# Altium schematic symbol library SparkFun-IC-Amplifiers.SCHLIB: 22 symbols
Pins are listed as number, name and electrical type; pins without a type are passive.

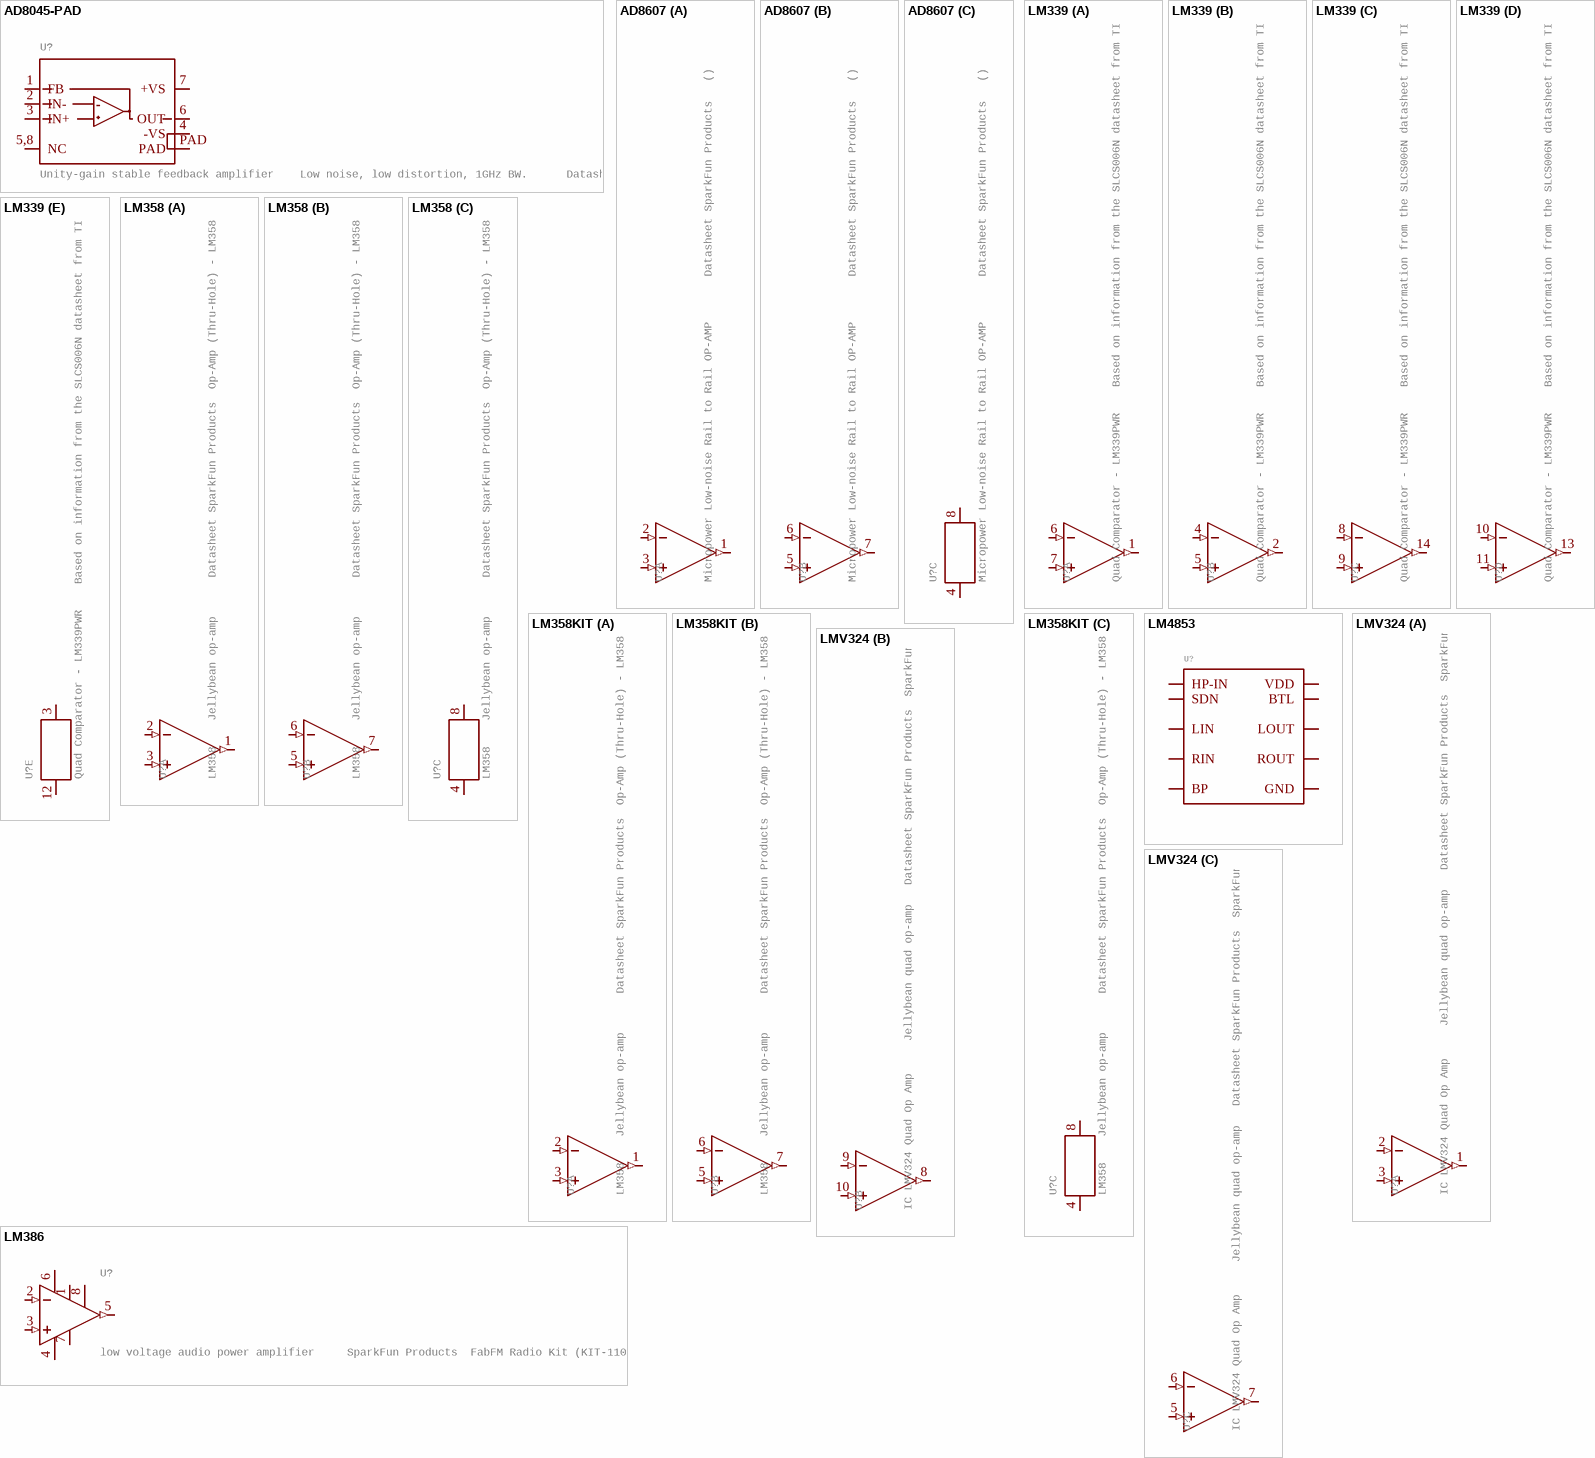
[diagram p0: symbols AD8045-PAD to LMV324]

## AD8045-PAD
designator U?, comment Unity-gain stable feedback amplifier    Low noise, low distortion, 1GHz BW.      Datasheet SparkFun Products  SparkFun MiniGen - Pro Mini Signal Generator Shield (BOB-11420)
GateName_1: G$1; SymbolName_1: AD8045; DeviceName: -PAD; PROD_ID: IC-11224; LibraryName: SparkFun-IC-Amplifiers; DeviceSetName: AD8045; Package: SO08_PAD
footprint SO08_PAD
pins: 1 FB (io), 2 IN- (io), 3 IN+ (io), 4 -VS (power), 5,8 NC, 6 OUT (io), 7 +VS (power), PAD (power)

## AD8607
designator U?, comment Micropower Low-noise Rail to Rail OP-AMP       Datasheet SparkFun Products   ()        Currently in prototype (unknown project)
GateName_1: G1; GateName_2: G2; GateName_3: G3; SymbolName_3: POWER_CONSORT; DeviceSetName: AD8607; PROD_ID: IC-13133; SymbolName_1: OP-AMP; SymbolName_2: OP-AMP; LibraryName: SparkFun-IC-Amplifiers; Package: SO08
footprint SO08
part A pins: 1 OUT (out), 2 -IN (in), 3 +IN (in)
part B pins: 5 +IN (in), 6 -IN (in), 7 OUT (out)
part C pins: 4 P$V- (io), 8 P$V+ (io)

## LM339
designator U?, comment Quad Comparator - LM339PWR    Based on information from the SLCS006N datasheet from TI (www.ti.com).   Created by nick@scantool.net, 2008.  Updated 2016. SparkFun Products  SparkFun OBD-II UART (WIG-09555)  SparkFun Car Diagnostics Kit (RTL-10769)
GateName_1: G1; SymbolName_1: OP-AMP; GateName_2: G2; GateName_3: G3; GateName_4: G4; GateName_5: G5; SymbolName_5: POWER_CONSORT; DeviceSetName: LM339; PROD_ID: IC-09990; SymbolName_2: OP-AMP; SymbolName_3: OP-AMP; SymbolName_4: OP-AMP; LibraryName: SparkFun-IC-Amplifiers; Package: TSSOP-14
footprint TSSOP-14
part A pins: 1 OUT (out), 6 -IN (in), 7 +IN (in)
part B pins: 2 OUT (out), 4 -IN (in), 5 +IN (in)
part C pins: 8 -IN (in), 9 +IN (in), 14 OUT (out)
part D pins: 10 -IN (in), 11 +IN (in), 13 OUT (out)
part E pins: 3 P$V+ (io), 12 P$V- (io)

## LM358
designator U?, comment LM358    Jellybean op-amp      Datasheet SparkFun Products  Op-Amp (Thru-Hole) - LM358 (COM-09456)
GateName_1: G1; GateName_2: G2; GateName_3: G3; SymbolName_3: POWER_CONSORT; PROD_ID: IC-09172; SymbolName_1: OP-AMP; SymbolName_2: OP-AMP; LibraryName: SparkFun-IC-Amplifiers; DeviceSetName: LM358; Package: DIP08
footprint DIP08
part A pins: 1 OUT (out), 2 -IN (in), 3 +IN (in)
part B pins: 5 +IN (in), 6 -IN (in), 7 OUT (out)
part C pins: 4 P$V- (io), 8 P$V+ (io)

## LM358KIT
designator U?, comment LM358    Jellybean op-amp      Datasheet SparkFun Products  Op-Amp (Thru-Hole) - LM358 (COM-09456)
GateName_1: G1; GateName_2: G2; GateName_3: G3; SymbolName_3: POWER_CONSORT; DeviceName: KIT; PROD_ID: IC-09172; SymbolName_1: OP-AMP; SymbolName_2: OP-AMP; LibraryName: SparkFun-IC-Amplifiers; DeviceSetName: LM358; Package: DIP08-KIT
footprint DIP08-KIT
part A pins: 1 OUT (out), 2 -IN (in), 3 +IN (in)
part B pins: 5 +IN (in), 6 -IN (in), 7 OUT (out)
part C pins: 4 P$V- (io), 8 P$V+ (io)

## LM386
designator U?, comment low voltage audio power amplifier     SparkFun Products  FabFM Radio Kit (KIT-11043)
GateName_1: G1; SymbolName_1: OP-AMP+-FULL; DeviceSetName: LM386; PROD_ID: IC-10899; LibraryName: SparkFun-IC-Amplifiers; Package: DIP08
footprint DIP08
pins: 1 GAIN@1 (io), 2 -IN (in), 3 +IN (in), 4 V- (power), 5 OUT (out), 6 V+ (power), 7 BP (io), 8 GAIN@8 (io)

## LM4853
designator U?
GateName_1: G$1; SymbolName_1: LM4853; PROD_ID: IC-13812; LibraryName: SparkFun-IC-Amplifiers; DeviceSetName: LM4853; Package: TFSOP-10
footprint TFSOP-10
pins: BP (io), BTL (io), GND (io), HP-IN (io), LIN (io), LOUT (io), RIN (io), ROUT (io), SDN (io), VDD (io)

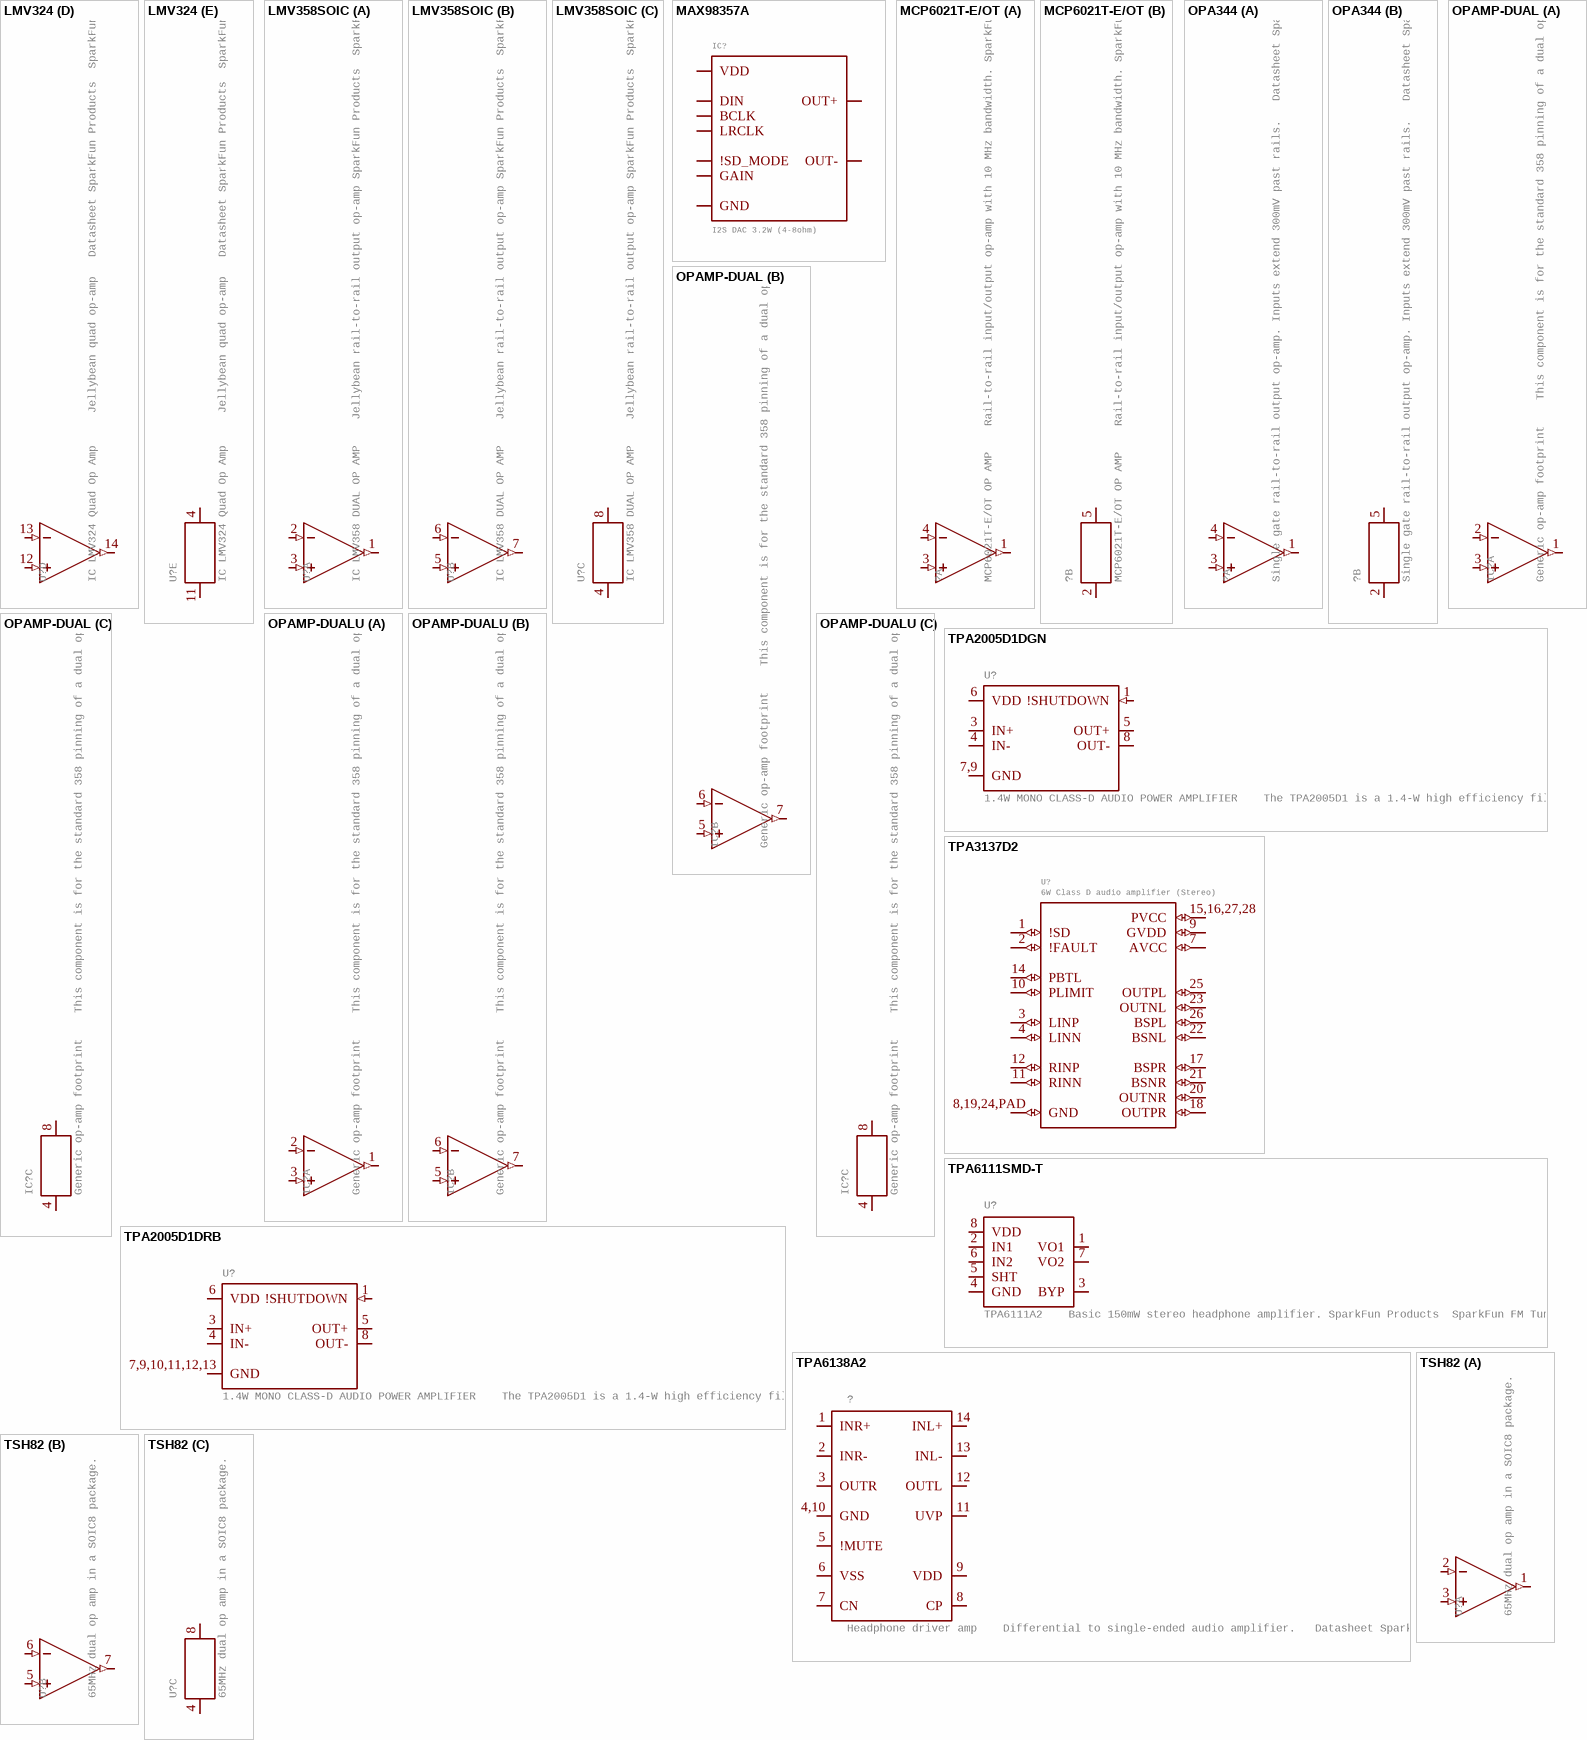
[diagram p1: symbols LMV324 to TSH82]

## LMV324
designator U?, comment IC LMV324 Quad Op Amp     Jellybean quad op-amp   Datasheet SparkFun Products  SparkFun Sensor Kit (DEV-13754)  SparkFun Inventor's Kit for Arduino 101 (KIT-13844)  SparkFun Sound Detector (SEN-12642)
GateName_1: G1; GateName_2: G2; GateName_3: G3; GateName_4: G4; GateName_5: G5; SymbolName_5: POWER_CONSORT; PROD_ID: IC-08227; SymbolName_1: OP-AMP; SymbolName_2: OP-AMP; SymbolName_3: OP-AMP; SymbolName_4: OP-AMP; LibraryName: SparkFun-IC-Amplifiers; DeviceSetName: LMV324; Package: SO14
footprint SO14
part A pins: 1 OUT (out), 2 -IN (in), 3 +IN (in)
part B pins: 8 OUT (out), 9 -IN (in), 10 +IN (in)
part C pins: 5 +IN (in), 6 -IN (in), 7 OUT (out)
part D pins: 12 +IN (in), 13 -IN (in), 14 OUT (out)
part E pins: 4 P$V+ (io), 11 P$V- (io)

## LMV358SOIC
designator U?, comment IC LMV358 DUAL OP AMP    Jellybean rail-to-rail output op-amp SparkFun Products  SparkFun PicoBoard (WIG-11888)  SparkFun Vernier Interface Shield (DEV-12858)  SparkFun Blynk Board - ESP8266 (WRL-13794)  SparkFun Digital Sandbox (DEV-12651 RoHS)
GateName_1: G1; GateName_2: G2; GateName_3: G3; SymbolName_3: POWER_CONSORT; DeviceName: SOIC; PROD_ID: IC-09657; SymbolName_1: OP-AMP; SymbolName_2: OP-AMP; LibraryName: SparkFun-IC-Amplifiers; DeviceSetName: LMV358; Package: SO08
footprint SO08
part A pins: 1 OUT (out), 2 -IN (in), 3 +IN (in)
part B pins: 5 +IN (in), 6 -IN (in), 7 OUT (out)
part C pins: 4 P$V- (io), 8 P$V+ (io)

## MAX98357A
designator IC?, comment I2S DAC 3.2W (4-8ohm)
GateName_1: G$1; SymbolName_1: MAX98357A; PROD_ID: IC-14032; LibraryName: SparkFun-IC-Amplifiers; DeviceSetName: MAX98357A; Package: TQFN-16
footprint TQFN-16
pins: P$1 DIN (io), P$2 GAIN (io), P$3,P$11,P$15,P$EP GND (io), P$4 !SD_MODE (io), P$7,8 VDD (io), P$9 OUT+ (io), P$10 OUT- (io), P$14 LRCLK (io), P$16 BCLK (io)

## MCP6021T-E/OT
designator ?, comment MCP6021T-E/OT OP AMP    Rail-to-rail input/output op-amp with 10 MHz bandwidth. SparkFun Products  ZX Distance and Gesture Sensor (SEN-12780)
GateName_1: G1; GateName_2: G2; SymbolName_2: POWER_CONSORT; DeviceName: T-E/OT; PROD_ID: IC-12504; SymbolName_1: OP-AMP; LibraryName: SparkFun-IC-Amplifiers; DeviceSetName: MCP6021; Package: SOT23-5
footprint SOT23-5
part A pins: 1 OUT (out), 3 +IN (in), 4 -IN (in)
part B pins: 2 P$V- (io), 5 P$V+ (io)

## OPA344
designator ?, comment Single gate rail-to-rail output op-amp. Inputs extend 300mV past rails.   Datasheet SparkFun Products  SparkFun Low Current Sensor (SEN-08883)  SparkFun Electret Microphone Breakout (BOB-12758)
GateName_1: G1; SymbolName_1: OP-AMP; GateName_2: G2; SymbolName_2: POWER_CONSORT; DeviceSetName: OPA344; PROD_ID: IC-08251; LibraryName: SparkFun-IC-Amplifiers; Package: SOT23-5
footprint SOT23-5
part A pins: 1 OUT (out), 3 +IN (in), 4 -IN (in)
part B pins: 2 P$V- (io), 5 P$V+ (io)

## OPAMP-DUAL
designator IC?, comment Generic op-amp footprint    This component is for the standard 358 pinning of a dual op-amp   From the LM358 datasheet:    Pin 1: Output A  Pin 2: Inverting Input A  Pin 3: Non-Inverting Input A  Pin 4: Gnd  Pin 5: Non-Inverting Input B  Pin 6: Inverting Input B  Pin 7: Output B  Pin 8: V+
GateName_1: G1; GateName_2: G2; GateName_3: G3; SymbolName_3: POWER_CONSORT; DeviceSetName: OPAMP-DUAL; PROD_ID: NA-XXXXX; SymbolName_1: OP-AMP; SymbolName_2: OP-AMP; LibraryName: SparkFun-IC-Amplifiers; Package: DIP08
footprint DIP08
part A pins: 1 OUT (out), 2 -IN (in), 3 +IN (in)
part B pins: 5 +IN (in), 6 -IN (in), 7 OUT (out)
part C pins: 4 P$V- (io), 8 P$V+ (io)

## OPAMP-DUALU
designator IC?, comment Generic op-amp footprint    This component is for the standard 358 pinning of a dual op-amp   From the LM358 datasheet:    Pin 1: Output A  Pin 2: Inverting Input A  Pin 3: Non-Inverting Input A  Pin 4: Gnd  Pin 5: Non-Inverting Input B  Pin 6: Inverting Input B  Pin 7: Output B  Pin 8: V+
GateName_1: G1; GateName_2: G2; GateName_3: G3; SymbolName_3: POWER_CONSORT; DeviceName: U; DeviceSetName: OPAMP-DUAL; PROD_ID: NA-XXXXX; SymbolName_1: OP-AMP; SymbolName_2: OP-AMP; LibraryName: SparkFun-IC-Amplifiers; Package: SO08
footprint SO08
part A pins: 1 OUT (out), 2 -IN (in), 3 +IN (in)
part B pins: 5 +IN (in), 6 -IN (in), 7 OUT (out)
part C pins: 4 P$V- (io), 8 P$V+ (io)

## TPA2005D1DGN
designator U?, comment 1.4W MONO CLASS-D AUDIO POWER AMPLIFIER    The TPA2005D1 is a 1.4-W high efficiency filter-free class-D audio power amplifier in a BGA, QFN, or MSOP package that requires only three external components.   Datasheet: http://focus.ti.com/lit/ds/symlink/tpa2005d1.pdf 1.4 W Into 8 ? From a 5V Supply at THD = 10% (Typ)  Maximum Battery Life and Minimum Heat  Efficiency With an 8-? Speaker: 84% at 400 mW, 79% at 100 mW  2.8-mA Quiescent Current  0.5-mA Shutdown Current  Ideal for Wireless or Cellular Handsets and PDAs  Capable of Driving an 8-? Speaker (2.5 V ? VDD ? 5.5 V) and a 4-? Speaker (2.5 V ? VDD ? 4.2 V)  Only Three External Components  Optimized PWM Output Stage Eliminates LC Output Filter  Internally Generated 250-kHz Switching Frequency Eliminates Capacitor and Resistor  Improved PSRR (-71 dB at 217 Hz) and Wide Supply Voltage (2.5 V to 5.5 V) Eliminates Need for a Voltage Regulator  Fully Differential Design Reduces RF Rectification and Eliminates Bypass Capacitor  Improved CMRR Eliminates Two Input Coupling Capacitors     SparkFun Products  SparkFun Mono Audio Amp Breakout - TPA2005D1 (BOB-11044)    Note:  SparkFun currenly only uses the QFN style part
GateName_1: U1; DeviceName: DGN; PROD_ID: NA-XXXXX; SymbolName_1: TPA2005D1; LibraryName: SparkFun-IC-Amplifiers; DeviceSetName: TPA2005D1; Package: POWER-SOP8
footprint POWER-SOP8
pins: 1 !SHUTDOWN (in), 3 IN+ (io), 4 IN- (io), 5 OUT+ (io), 6 VDD (power), 7,9 GND (power), 8 OUT- (io)

## TPA2005D1DRB
designator U?, comment 1.4W MONO CLASS-D AUDIO POWER AMPLIFIER    The TPA2005D1 is a 1.4-W high efficiency filter-free class-D audio power amplifier in a BGA, QFN, or MSOP package that requires only three external components.   Datasheet: http://focus.ti.com/lit/ds/symlink/tpa2005d1.pdf 1.4 W Into 8 ? From a 5V Supply at THD = 10% (Typ)  Maximum Battery Life and Minimum Heat  Efficiency With an 8-? Speaker: 84% at 400 mW, 79% at 100 mW  2.8-mA Quiescent Current  0.5-mA Shutdown Current  Ideal for Wireless or Cellular Handsets and PDAs  Capable of Driving an 8-? Speaker (2.5 V ? VDD ? 5.5 V) and a 4-? Speaker (2.5 V ? VDD ? 4.2 V)  Only Three External Components  Optimized PWM Output Stage Eliminates LC Output Filter  Internally Generated 250-kHz Switching Frequency Eliminates Capacitor and Resistor  Improved PSRR (-71 dB at 217 Hz) and Wide Supply Voltage (2.5 V to 5.5 V) Eliminates Need for a Voltage Regulator  Fully Differential Design Reduces RF Rectification and Eliminates Bypass Capacitor  Improved CMRR Eliminates Two Input Coupling Capacitors     SparkFun Products  SparkFun Mono Audio Amp Breakout - TPA2005D1 (BOB-11044)    Note:  SparkFun currenly only uses the QFN style part
GateName_1: U1; DeviceName: DRB; PROD_ID: IC-10975; SymbolName_1: TPA2005D1; LibraryName: SparkFun-IC-Amplifiers; DeviceSetName: TPA2005D1; Package: QFN-8_PAD
footprint QFN-8_PAD
pins: 1 !SHUTDOWN (in), 3 IN+ (io), 4 IN- (io), 5 OUT+ (io), 6 VDD (power), 7,9,10,11,12,13 GND (power), 8 OUT- (io)

## TPA3137D2
designator U?, comment 6W Class D audio amplifier (Stereo)
GateName_1: G$1; SymbolName_1: TPA3137D2; LibraryName: SparkFun-IC-Amplifiers; DeviceSetName: TPA3137D2; Package: SSOP28_PAD
footprint SSOP28_PAD
pins: 1 !SD (io), 2 !FAULT (io), 3 LINP (io), 4 LINN (io), 7 AVCC (io), 8,19,24,PAD GND (io), 9 GVDD (io), 10 PLIMIT (io), 11 RINN (io), 12 RINP (io), 14 PBTL (io), 15,16,27,28 PVCC (io), 17 BSPR (io), 18 OUTPR (io), 20 OUTNR (io), 21 BSNR (io), 22 BSNL (io), 23 OUTNL (io), 25 OUTPL (io), 26 BSPL (io)

## TPA6111SMD-T
designator U?, comment TPA6111A2    Basic 150mW stereo headphone amplifier. SparkFun Products  SparkFun FM Tuner Evaluation Board - Si4703 (WRL-12938)
GateName_1: G$1; DeviceName: SMD-T; PROD_ID: IC-10149; SymbolName_1: TPA6111; LibraryName: SparkFun-IC-Amplifiers; DeviceSetName: TPA6111; Package: SO08
footprint SO08
pins: 1 VO1 (io), 2 IN1 (io), 3 BYP (io), 4 GND (io), 5 SHT (io), 6 IN2 (io), 7 VO2 (io), 8 VDD (io)

## TPA6138A2
designator ?, comment Headphone driver amp    Differential to single-ended audio amplifier.   Datasheet SparkFun Products  SparkFun Purpletooth Jamboree - BC127 Development Board (WRL-11924)
GateName_1: G$1; SymbolName_1: TPA6138A2; PROD_ID: IC-11779; LibraryName: SparkFun-IC-Amplifiers; DeviceSetName: TPA6138A2; Package: TSSOP-14
footprint TSSOP-14
pins: 1 INR+ (io), 2 INR- (io), 3 OUTR (io), 4,10 GND (io), 5 !MUTE (io), 6 VSS (io), 7 CN (io), 8 CP (io), 9 VDD (io), 11 UVP (io), 12 OUTL (io), 13 INL- (io), 14 INL+ (io)

## TSH82
designator U?, comment 65MHz dual op amp in a SOIC8 package.
GateName_1: G1; SymbolName_1: OP-AMP; GateName_2: G2; GateName_3: G3; SymbolName_3: POWER_CONSORT; DeviceSetName: TSH82; SymbolName_2: OP-AMP; LibraryName: SparkFun-IC-Amplifiers; Package: SO08
footprint SO08
part A pins: 1 OUT (out), 2 -IN (in), 3 +IN (in)
part B pins: 5 +IN (in), 6 -IN (in), 7 OUT (out)
part C pins: 4 P$V- (io), 8 P$V+ (io)

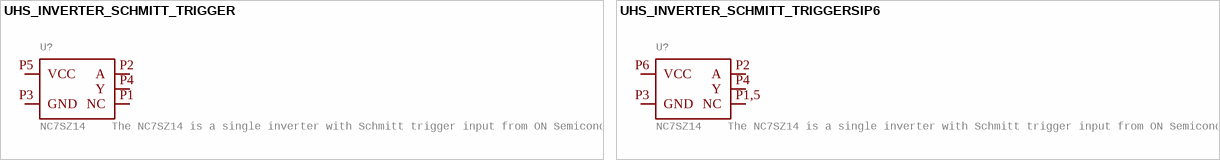
[diagram p2: symbols UHS_INVERTER_SCHMITT_TRIGGER to UHS_INVERTER_SCHMITT_TRIGGERSIP6]

## UHS_INVERTER_SCHMITT_TRIGGER
designator U?, comment NC7SZ14    The NC7SZ14 is a single inverter with Schmitt trigger input from ON Semiconductorâ€™s Ultraâˆ’High Speed (UHS) series of TinyLogic. The device is fabricated w ith advanced CMOS technology to achieve ultraâˆ’high speed with high output drive while maintaining low static power dissipation over a very broad VCC operating range. The device is specified to operate over the 1.65 V to 5.5 V VCC range. The inputs and outputs are highâˆ’impedance when VCC is 0 V. Inputs tolerate voltages up to 5.5 V independent of VCC operating voltage.    Digikey Link
GateName_1: G$1; SymbolName_1: NC7SZ14-D; DeviceSetName: UHS_INVERTER_SCHMITT_TRIGGER; PROD_ID: IC-15068; LibraryName: SparkFun-IC-Amplifiers; Package: SC-74A
footprint SC-74A
pins: P1 NC, P2 A (io), P3 GND (power), P4 Y (io), P5 VCC (power)

## UHS_INVERTER_SCHMITT_TRIGGERSIP6
designator U?, comment NC7SZ14    The NC7SZ14 is a single inverter with Schmitt trigger input from ON Semiconductorâ€™s Ultraâˆ’High Speed (UHS) series of TinyLogic. The device is fabricated w ith advanced CMOS technology to achieve ultraâˆ’high speed with high output drive while maintaining low static power dissipation over a very broad VCC operating range. The device is specified to operate over the 1.65 V to 5.5 V VCC range. The inputs and outputs are highâˆ’impedance when VCC is 0 V. Inputs tolerate voltages up to 5.5 V independent of VCC operating voltage.    Digikey Link
GateName_1: G$1; SymbolName_1: NC7SZ14-D; DeviceName: SIP6; DeviceSetName: UHS_INVERTER_SCHMITT_TRIGGER; PROD_ID: IC-15068; LibraryName: SparkFun-IC-Amplifiers; Package: SIP6
footprint SIP6
pins: P1,5 NC, P2 A (io), P3 GND (power), P4 Y (io), P6 VCC (power)